# Altium schematic symbol library AltiumDesigner.SchLib: 1 symbol
Pins are listed as number, name and electrical type; pins without a type are passive.

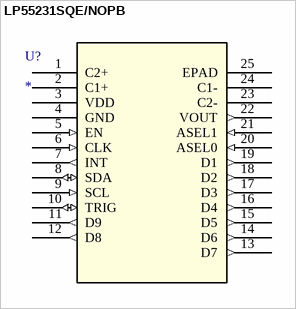
[diagram p0: symbol LP55231SQE/NOPB]

## LP55231SQE/NOPB
designator U?
Imported; Manufacturer_Part_Number: LP55231SQE/NOPB; Vendor: Texas Instruments; Built_By: EMA_UL_Team; C: Copyright (C) 2016 Accelerated Designs. All rights reserved; RefDes: RefDes; Type: DEV; Value: Value
footprint RTW24
pins: 1 C2+, 2 C1+, 3 VDD (power), 4 GND (power), 5 EN (in), 6 CLK (in), 7 INT (out), 8 SDA (io), 9 SCL (in), 10 TRIG (io), 11 D9 (out), 12 D8 (out), 13 D7 (out), 14 D6 (out), 15 D5 (out), 16 D4 (out), 17 D3 (out), 18 D2 (out), 19 D1 (out), 20 ASEL0 (in), 21 ASEL1 (in), 22 VOUT (out), 23 C2-, 24 C1-, 25 EPAD